# EAGLE library part 74LCX16245MTD (library SamacSys_Parts)
16-Bit Bidirectional Transceiver Source: Datasheet <https://componentsearchengine.com/Datasheets/1/74LCX16245MTD.pdf>
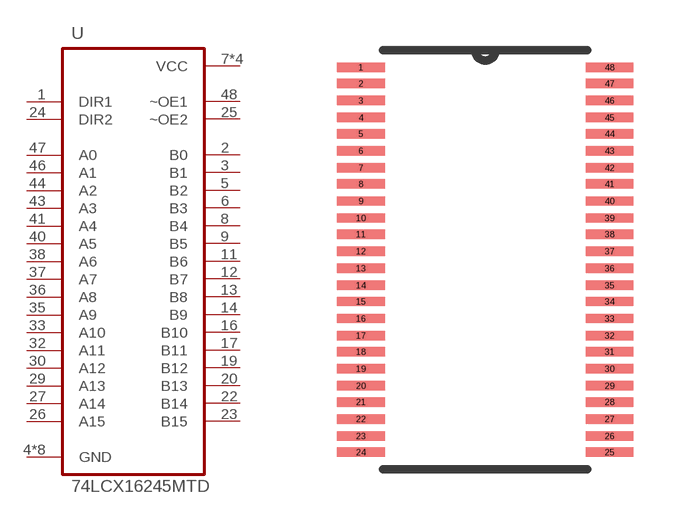
[diagram p4: symbol with the pads of SOP50P810X120-48N; footprint SOP50P810X120-48N]

Designator prefix U

## 74LCX16245MTD (DESCRIPTION: 16-Bit Bidirectional Transceiver; HEIGHT: mm; MANUFACTURER_NAME: ON Semiconductor; MANUFACTURER_PART_NUMBER: 74LCX16245MTD; MOUSER_PART_NUMBER: 512-74LCX16245MTD; MOUSER_PRICE-STOCK: https://www.mouser.com/Search/Refine.aspx?Keyword=512-74LCX16245MTD)  [SOP50P810X120-48N]
1  DIR1
2  B0
3  B1
4  GND
5  B2
6  B3
7  VCC  pwr
8  B4
9  B5
10  GND
11  B6
12  B7
13  B8
14  B9
15  GND
16  B10
17  B11
18  VCC  pwr
19  B12
20  B13
21  GND
22  B14
23  B15
24  DIR2
25  ~OE2
26  A15
27  A14
28  GND
29  A13
30  A12
31  VCC  pwr
32  A11
33  A10
34  GND
35  A9
36  A8
37  A7
38  A6
39  GND
40  A5
41  A4
42  VCC  pwr
43  A3
44  A2
45  GND
46  A1
47  A0
48  ~OE1

## Footprint SOP50P810X120-48N (pad centres in mm)
SOP50P810X120-48N
smd 1.422 x 0.279: 1 -3.708,5.74; 2 -3.708,5.258; 3 -3.708,4.75; 4 -3.708,4.242; 5 -3.708,3.759; 6 -3.708,3.251; 7 -3.708,2.743; 8 -3.708,2.261; 9 -3.708,1.753; 10 -3.708,1.245; 11 -3.708,0.762; 12 -3.708,0.254; 13 -3.708,-0.254; 14 -3.708,-0.762; 15 -3.708,-1.245; 16 -3.708,-1.753; 17 -3.708,-2.261; 18 -3.708,-2.743; 19 -3.708,-3.251; 20 -3.708,-3.759; 21 -3.708,-4.242; 22 -3.708,-4.75; 23 -3.708,-5.258; 24 -3.708,-5.74; 25 3.708,-5.74; 26 3.708,-5.258; 27 3.708,-4.75; 28 3.708,-4.242; 29 3.708,-3.759; 30 3.708,-3.251; 31 3.708,-2.743; 32 3.708,-2.261; 33 3.708,-1.753; 34 3.708,-1.245; 35 3.708,-0.762; 36 3.708,-0.254; 37 3.708,0.254; 38 3.708,0.762; 39 3.708,1.245; 40 3.708,1.753; 41 3.708,2.261; 42 3.708,2.743; 43 3.708,3.251; 44 3.708,3.759; 45 3.708,4.242; 46 3.708,4.75; 47 3.708,5.258; 48 3.708,5.74